# EAGLE library part TSL2561_BREAKOUT (library adafruit-supplemental-arkane)
Adafruit TSL2561 Luminosity Sensor Breakout - https://www.adafruit.com/product/439
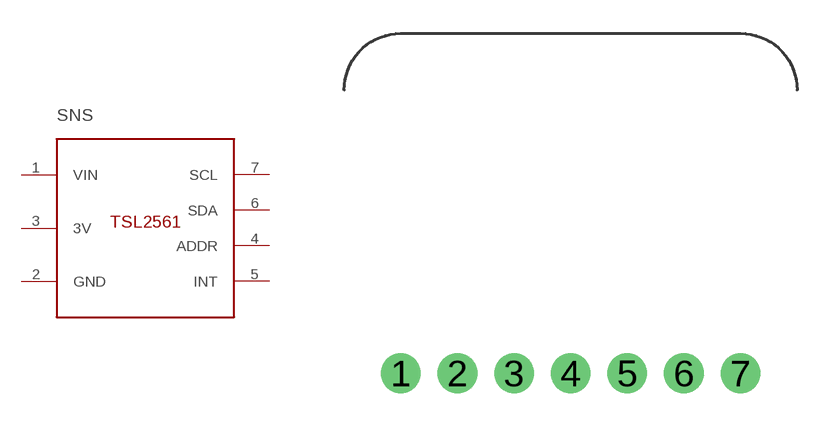
[diagram p3: symbol with the pads of TSL2561_BREAKOUT; footprint TSL2561_BREAKOUT]

Designator prefix SNS

## TSL2561_BREAKOUT  [TSL2561_BREAKOUT]
1  VIN  pwr
2  GND  pwr
3  3V  pas
4  ADDR
5  INT  out
6  SDA
7  SCL  in

## Footprint TSL2561_BREAKOUT (pad centres in mm)
Footprint for TSL2561 breakout.
drill 1 pad 1.778: 1 2.54,1.27; 2 5.08,1.27; 3 7.62,1.27; 4 10.16,1.27; 5 12.7,1.27; 6 15.24,1.27; 7 17.78,1.27